# Altium footprint library RES_WSKJ.PcbLib: 18 footprints (part 2 of 2)
Each footprint in its own frame and in the unit in brackets; x right, y up, seen from the top. Pads: shape width x height; smd on the part's side, far side on the other; paste and mask are expansions set on the pad; w line width, h text height; cw(c..) or ccw(c..) is an arc to the next point about the centre after c.
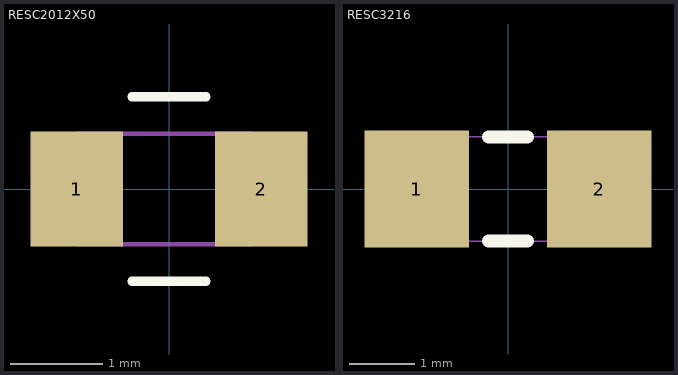
[diagram p1: the footprints below, top view; thin cyan lines are the x and y axes]

## RESC2012X50 [mm]
pads (2):
  rect 1x1.25 smd: 1(-1,0) 2(1,0)
Top Overlay:
  lines w0.1: -0.4,-1 0.4,-1 ; -0.4,1 0.4,1
Mechanical 7:
  lines w0.05: -1,-0.6 0.9,-0.6 0.9,0.6 -1,0.6 -1,-0.6
3D body: height 0.5, standoff 0, extent -1,-0.6 1,0.6
3D body: height 0.1, standoff 0, extent -1.031,-0.535 -0.576,0.565
3D body: height 0.1, standoff 0, extent 0.613,-0.535 1.069,0.565
3D body: height 0.25, standoff 0, extent -0.576,-0.544 0.611,0.565

## RESC3216 [mm]
pads (2):
  rect 1.6x1.8 smd: 1(-1.4,0) 2(1.4,0)
Top Overlay:
  lines w0.2: -0.3,-0.8 0.3,-0.8 ; -0.3,0.8 0.3,0.8
Mechanical 7:
  lines w0.025: -1.6,-0.8 -1.6,0.8 1.6,0.8 1.6,-0.8 -1.6,-0.8
  text ".Designator" at -1.5,0.4 h0.5
  text ".Comment" at -1.5,-0.7 h0.5
3D body: height 0.5, standoff 0, extent -0.752,-0.765 0.816,0.801
3D body: height 0.55, standoff 0, extent 0.743,-0.809 1.367,0.833
3D body: height 0.55, standoff 0, extent -1.334,-0.792 -0.71,0.85